# EAGLE library part XR-2402J (library exar)
V.22bis high perfomance AFE
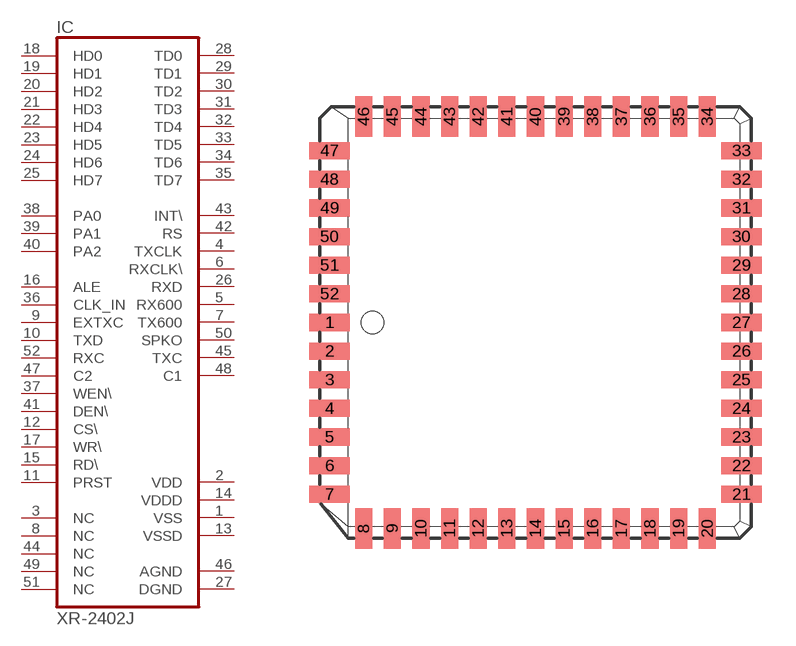
[diagram p47: symbol with the pads of PLCC52; footprint PLCC52]

Designator prefix IC

## XR-2402J  [PLCC52]
1  VSS  pwr
2  VDD  pwr
3  NC  nc
4  TXCLK  out
5  RX600  out
6  RXCLK\  out
7  TX600  out
8  NC  nc
9  EXTXC  in
10  TXD  in
11  PRST  in
12  CS\  in
13  VSSD  pwr
14  VDDD  pwr
15  RD\  in
16  ALE  in
17  WR\  in
18  HD0
19  HD1
20  HD2
21  HD3
22  HD4
23  HD5
24  HD6
25  HD7
26  RXD  out
27  DGND  pwr
28  TD0
29  TD1
30  TD2
31  TD3
32  TD4
33  TD5
34  TD6
35  TD7
36  CLK_IN  in
37  WEN\  in
38  PA0  in
39  PA1  in
40  PA2  in
41  DEN\  in
42  RS  out
43  INT\  out
44  NC  nc
45  TXC  out
46  AGND  pwr
47  C2  in
48  C1  out
49  NC  nc
50  SPKO  out
51  NC  nc
52  RXC  in

## Footprint PLCC52 (pad centres in mm)
Plastic Leaded Chip Carrier
smd 1.8 x 0.76: 1 -9.13,0; 2 -9.13,-1.27; 3 -9.13,-2.54; 4 -9.13,-3.81; 5 -9.13,-5.08; 6 -9.13,-6.35; 7 -9.13,-7.62; 21 9.13,-7.62; 22 9.13,-6.35; 23 9.13,-5.08; 24 9.13,-3.81; 25 9.13,-2.54; 26 9.13,-1.27; 27 9.13,0; 28 9.13,1.27; 29 9.13,2.54; 30 9.13,3.81; 31 9.13,5.08; 32 9.13,6.35; 33 9.13,7.62; 47 -9.13,7.62; 48 -9.13,6.35; 49 -9.13,5.08; 50 -9.13,3.81; 51 -9.13,2.54; 52 -9.13,1.27
smd 0.76 x 1.8: 8 -7.62,-9.13; 9 -6.35,-9.13; 10 -5.08,-9.13; 11 -3.81,-9.13; 12 -2.54,-9.13; 13 -1.27,-9.13; 14 0,-9.13; 15 1.27,-9.13; 16 2.54,-9.13; 17 3.81,-9.13; 18 5.08,-9.13; 19 6.35,-9.13; 20 7.62,-9.13; 34 7.62,9.13; 35 6.35,9.13; 36 5.08,9.13; 37 3.81,9.13; 38 2.54,9.13; 39 1.27,9.13; 40 0,9.13; 41 -1.27,9.13; 42 -2.54,9.13; 43 -3.81,9.13; 44 -5.08,9.13; 45 -6.35,9.13; 46 -7.62,9.13